# Altium footprint library VALCON_THS-03-R-RAF.PcbLib: 1 footprints
Each footprint in its own frame and in the unit in brackets; x right, y up, seen from the top. Pads: shape width x height; smd on the part's side, far side on the other; paste and mask are expansions set on the pad; w line width, h text height; cw(c..) or ccw(c..) is an arc to the next point about the centre after c.
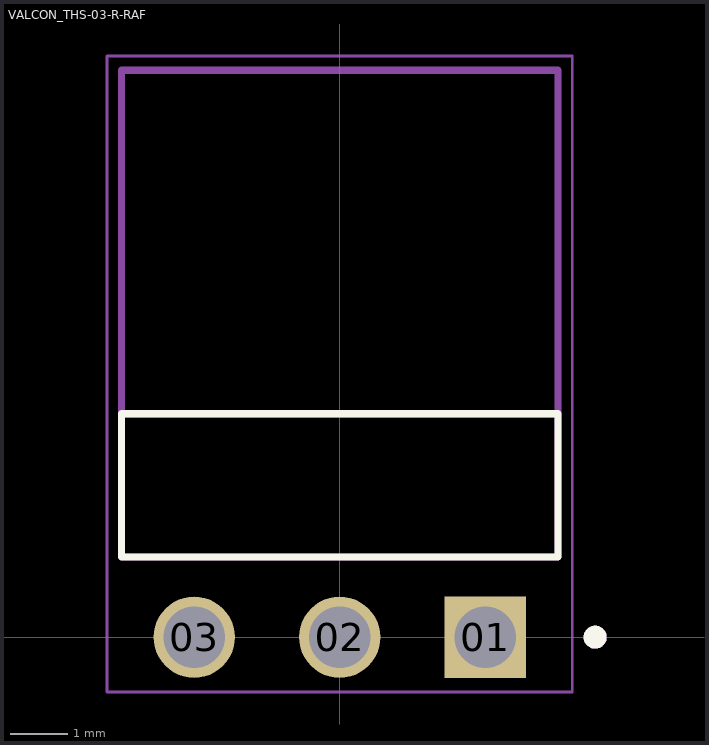
[diagram p0: the footprint, top view; thin cyan lines are the x and y axes]

## VALCON_THS-03-R-RAF [mm]
pads (3):
  rect 1.42x1.42 hole 1.07: 01(2.54,0)
  round 1.42 hole 1.07: 02(0,0) 03(-2.54,0)
Top Overlay:
  circle w0.2: c4.46,0 r0.1
  lines w0.127: -3.81,1.4 -3.81,3.9 3.81,3.9 3.81,1.4 -3.81,1.4
Mechanical 13:
  circle w0.2: c4.46,0 r0.1
  lines w0.127: -3.81,1.4 -3.81,3.9 3.81,3.9 3.81,1.4 ; -3.81,1.4 3.81,1.4 ; -3.81,1.4 -3.81,9.9 3.81,9.9 3.81,1.4
Mechanical 15:
  lines w0.05: -4.06,-0.96 -4.06,10.15 4.06,10.15 4.06,-0.96 -4.06,-0.96
3D body "Header 3.STEP": height 4.23, standoff -5.99, extent -3.81,-1.27 3.81,4.23